# Altium footprint library PcbLib1.PcbLib: 37 footprints (part 2 of 3)
Each footprint in its own frame and in the unit in brackets; x right, y up, seen from the top. Pads: shape width x height; smd on the part's side, far side on the other; paste and mask are expansions set on the pad; w line width, h text height; cw(c..) or ccw(c..) is an arc to the next point about the centre after c.
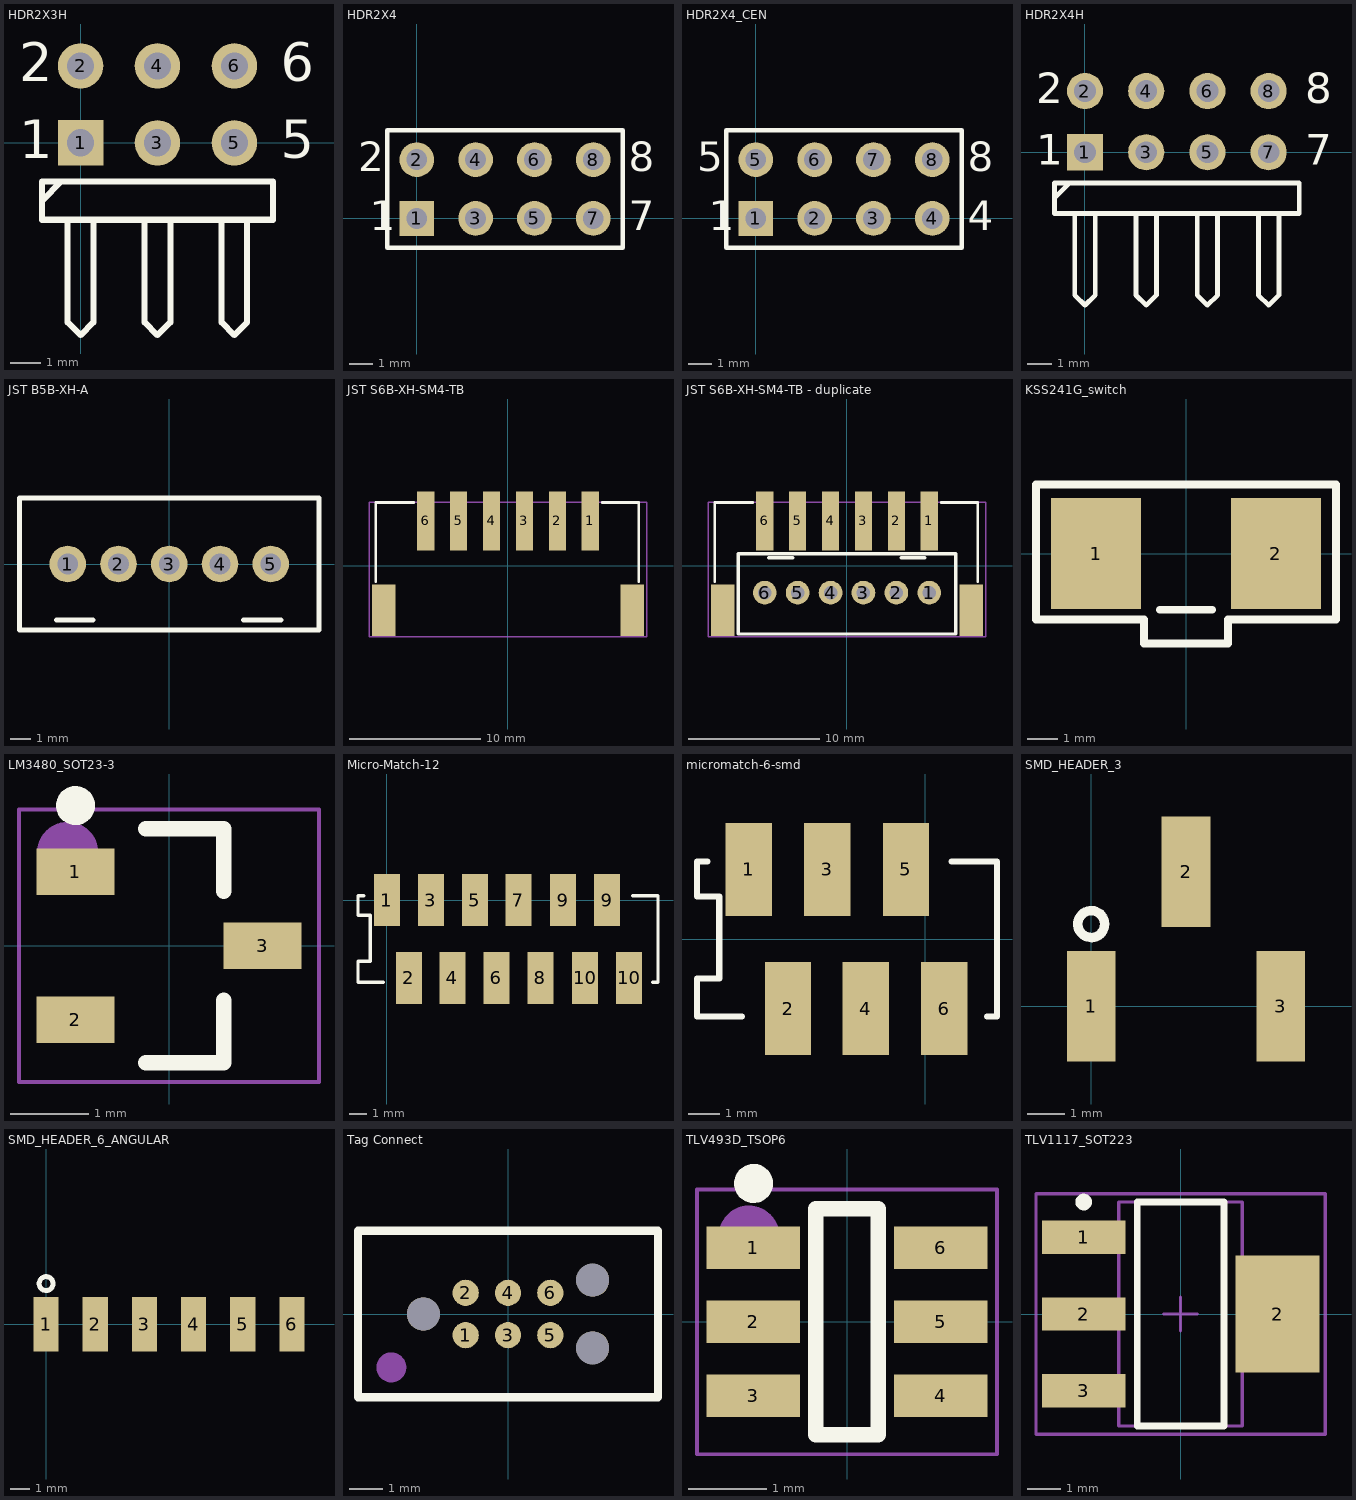
[diagram p1: the footprints below, top view; thin cyan lines are the x and y axes]

## HDR2X3H [mm] "Connector; Header; 3x2 Position; Right Angle"
pads (6):
  rect 1.5x1.5 hole 0.9: 1(0,0)
  round 1.5 hole 0.9: 2(0,2.54) 3(2.54,0) 4(2.54,2.54) 5(5.08,0) 6(5.08,2.54)
Top Overlay:
  lines w0.2: -1.27,-1.905 -0.635,-1.27 ; -0.423,-2.54 -0.423,-5.927 0,-6.35 0.423,-5.927 0.423,-2.54 ; 2.117,-2.54 2.117,-5.927 2.54,-6.35 2.963,-5.927 2.963,-2.54 ; 4.657,-2.54 4.657,-5.927 5.08,-6.35 5.503,-5.927 5.503,-2.54 ; -1.27,-2.54 6.35,-2.54 6.35,-1.27 -1.27,-1.27 -1.27,-2.54
  text "2" at -2.032,2.032 h1.27
  text "1" at -2.032,-0.508 h1.27
  text "5" at 6.604,-0.508 h1.27
  text "6" at 6.604,2.032 h1.27

## HDR2X4 [mm] "Connector; Header; 4x2 Position"
pads (8):
  rect 1.5x1.5 hole 0.9: 1(0,0)
  round 1.5 hole 0.9: 2(0,2.54) 3(2.54,0) 4(2.54,2.54) 5(5.08,0) 6(5.08,2.54) 7(7.62,0) 8(7.62,2.54)
Top Overlay:
  lines w0.2: -1.27,-1.27 8.89,-1.27 8.89,3.81 -1.27,3.81 -1.27,-1.27
  text "2" at -2.54,2.032 h1.27
  text "1" at -2.032,-0.508 h1.27
  text "7" at 9.144,-0.508 h1.27
  text "8" at 9.144,2.032 h1.27

## HDR2X4_CEN [mm] "Connector; Header; 4x2 Position"
pads (8):
  rect 1.5x1.5 hole 0.9: 1(0,0)
  round 1.5 hole 0.9: 2(2.54,0) 3(5.08,0) 4(7.62,0) 5(0,2.54) 6(2.54,2.54) 7(5.08,2.54) 8(7.62,2.54)
Top Overlay:
  lines w0.2: -1.27,-1.27 8.89,-1.27 8.89,3.81 -1.27,3.81 -1.27,-1.27
  text "5" at -2.54,2.032 h1.27
  text "1" at -2.032,-0.508 h1.27
  text "4" at 9.144,-0.508 h1.27
  text "8" at 9.144,2.032 h1.27

## HDR2X4H [mm] "Connector; Header; 4x2 Position; Right Angle"
pads (8):
  rect 1.5x1.5 hole 0.9: 1(0,0)
  round 1.5 hole 0.9: 2(0,2.54) 3(2.54,0) 4(2.54,2.54) 5(5.08,0) 6(5.08,2.54) 7(7.62,0) 8(7.62,2.54)
Top Overlay:
  lines w0.2: -1.27,-1.905 -0.635,-1.27 ; -0.423,-2.54 -0.423,-5.927 0,-6.35 0.423,-5.927 0.423,-2.54 ; 2.117,-2.54 2.117,-5.927 2.54,-6.35 2.963,-5.927 2.963,-2.54 ; 4.657,-2.54 4.657,-5.927 5.08,-6.35 5.503,-5.927 5.503,-2.54 ; 7.197,-2.54 7.197,-5.927 7.62,-6.35 8.043,-5.927 8.043,-2.54 ; -1.27,-2.54 -1.27,-1.27 8.89,-1.27 8.89,-2.54 -1.27,-2.54
  text "8" at 9.144,2.032 h1.27
  text "7" at 9.144,-0.508 h1.27
  text "1" at -2.032,-0.508 h1.27
  text "2" at -2.032,2.032 h1.27

## JST B5B-XH-A [mm] "JST B5B-XH-A"
pads (5):
  round 1.8 hole 1.02: 1(-5,0) 2(-2.5,0) 3(0,0) 4(2.5,0) 5(5,0)
Top Overlay:
  lines w0.254: -5.55,-2.75 -3.75,-2.75 ; 3.65,-2.75 5.5,-2.75 ; -7.375,-3.25 -7.375,3.25 7.375,3.25 7.375,2.375 7.375,-3.25 -7.375,-3.25
Mechanical 29:
  lines w0.1: -5.575,-2.75 -3.75,-2.75 ; 3.625,-2.75 5.525,-2.75 ; -7.4,-3.25 7.375,-3.25 7.375,3.25 7.35,3.25 -7.375,3.25 -7.375,-3.25 -7.4,-3.25
  text ".Designator" at -4.1,1.75 h1
3D body "JST B5B-XH-A.STEP": height 7, standoff -3.4, extent -7.45,-2.375 7.45,3.375

## JST S6B-XH-SM4-TB [mm] "JST S6B-XH-SM4-TB SMT motor connector"
height 6
pads (8):
  rect 1.3x4.5 smd: 1(6.25,3.4) 2(3.75,3.4) 3(1.25,3.4) 4(-1.25,3.4) 5(-3.75,3.4) 6(-6.25,3.4)
  rect 1.8x3.9 smd: ""(-9.45,-3.4) ""(9.45,-3.4)
Top Overlay:
  lines w0.2: -10.05,-1.2 -10.05,4.8 -7.15,4.8 ; 7.15,4.8 9.95,4.8 9.95,-1.2
Mechanical 29:
  lines w0.1: -10.55,-5.4 10.55,-5.4 10.55,4.8 -10.55,4.8 -10.55,-5.4
  text ".Designator" at -3.05,-1.3 h1.2
3D body "S6B-XH-SM4-TB.STEP": height 6, standoff 0, extent -9.975,-5.225 9.975,4.775

## JST S6B-XH-SM4-TB - duplicate [mm] "JST S6B-XH-SM4-TB SMT motor connector"
height 6
pads (14):
  round 1.8 hole 1.02: 1(6.25,-2.05) 2(3.75,-2.05) 3(1.25,-2.05) 4(-1.25,-2.05) 5(-3.75,-2.05) 6(-6.25,-2.05)
  rect 1.3x4.5 smd: 1(6.25,3.4) 2(3.75,3.4) 3(1.25,3.4) 4(-1.25,3.4) 5(-3.75,3.4) 6(-6.25,3.4)
  rect 1.8x3.9 smd: ""(-9.45,-3.4) ""(9.45,-3.4)
Top Overlay:
  lines w0.2: -10.05,-1.2 -10.05,4.8 -7.15,4.8 ; 7.15,4.8 9.95,4.8 9.95,-1.2
  lines w0.254: -5.95,0.6 -4.1,0.6 ; 4.125,0.6 5.925,0.6 ; -8.275,-5.2 8.275,-5.2 8.275,0.9 -8.275,0.9 -8.275,-5.2
Mechanical 29:
  lines w0.1: -8.25,-5.175 -8.275,-5.175 ; -5.975,0.6 -4.075,0.6 ; 4.075,0.6 5.975,0.6 ; -8.275,-5.175 8.275,-5.175 8.275,-5.2 8.275,0.9 8.25,0.9 -8.275,0.9 -8.275,-5.175 ; -10.55,-5.4 -10.55,4.8 10.55,4.8 10.55,-5.4 -10.55,-5.4
  text ".Designator" at -5.125,-4.425 h1.2
3D body "S6B-XH-SM4-TB.STEP": height 6, standoff 0, extent -9.975,-5.225 9.975,4.775

## KSS241G_switch [mm] "KSS241G SMT Side Actuated Switch"
height 1.7
pads (2):
  rect 3x3.7 smd: 1(-3,0) 2(3,0)
Top Overlay:
  lines w0.254: -0.875,-1.875 0.875,-1.875 ; -0.85,2.3 0.9,2.3 5,2.3 5,-2.1 5,-2.2 1.4,-2.2 1.4,-3 -1.4,-3 -1.4,-2.2 -5,-2.2 -5,2.3 -0.8,2.3
Mechanical 29:
  lines w0.1: -5,-2.2 -1.4,-2.2 -1.4,-3 1.4,-3 1.4,-2.2 5,-2.2 5,2.3 -5,2.3 -5,-2.2
  text ".Designator" at -2.3,-0.5 h1.2
3D body: height 1.7, standoff 0.1, extent -2.794,-1.905 2.794,1.905
3D body: height 1.7, standoff 0.1, extent -1.25,-2.794 1.25,-1.905

## LM3480_SOT23-3 [mm] "SOT23, 3-Leads, Body 2,92x2,37mm, Pitch 0,95mm, IPC Medium Density"
height 1.12
pads (3):
  rect 1x0.6 smd: 1(-1.2,0.95) 2(-1.2,-0.95) 3(1.2,0)
Top Overlay:
  circle w0.25: c-1.2,1.8 r0.125
  lines w0.2: -0.3,-1.5 0.7,-1.5 0.7,-0.7 ; -0.3,1.5 0.7,1.5 0.7,0.7
Mechanical 29:
  circle w0.5: c-1.3,1.2 r0.141
  lines w0.05: -1.925,-1.75 1.925,-1.75 1.925,1.75 -1.925,1.75 -1.925,-1.75
  text ".Designator" at -1.3,-0.6 h1.2
3D body: height 1.12, standoff 0.1, extent -0.7,-1.52 0.7,1.52

## Micro-Match-12 [mm] "Micro-Match Female-On-Board  12 Positions SMD"
height 5.3
pads (12):
  rect 1.5x3 smd: 1(0,0) 2(1.27,-4.5) 3(2.54,0) 4(3.78,-4.5) 5(5.08,0) 6(6.32,-4.5) 7(7.59,0) 8(8.86,-4.5) 9(10.16,0) 9(12.7,0) 10(11.43,-4.5) 10(13.97,-4.5)
Top Overlay:
  lines w0.2: -1.341,0.25 -1.67,0.25 -1.67,-0.875 -0.95,-0.875 -0.95,-3.525 -1.67,-3.525 -1.67,-4.75 -0.213,-4.75 ; 14.179,0.25 15.636,0.25 ; 15.322,-4.75 15.636,-4.75 ; 15.64,-4.75 15.64,0.25
3D body "c-8-188275-0-u-3d.stp": height 5.3, standoff 0.05, extent -1.615,-5.7 13.015,1.2
3D body "c-8-188275-0-u-3d.stp": height 5.3, standoff 0.05, extent 0.925,-5.7 15.555,1.2

## micromatch-6-smd [mm] "Micro-Match Female-On-Board  6 Positions SMD"
height 5.3
pads (6):
  rect 1.5x3 smd: 1(-5.7,2.25) 2(-4.43,-2.25) 3(-3.16,2.25) 4(-1.92,-2.25) 5(-0.62,2.25) 6(0.62,-2.25)
Top Overlay:
  lines w0.2: -7.041,2.5 -7.37,2.5 -7.37,1.375 -6.65,1.375 -6.65,-1.275 -7.37,-1.275 -7.37,-2.5 -5.913,-2.5 ; 0.859,2.5 2.316,2.5 ; 2.002,-2.5 2.316,-2.5 ; 2.32,-2.5 2.32,2.5
3D body "c-8-188275-0-u-3d.stp": height 5.3, standoff 0.05, extent -7.315,-3.45 7.315,3.45

## SMD_HEADER_3 [mm] "SMD_HEADER_3"
height 10
pads (3):
  rect 1.3x2.96 smd: 1(0,0) 2(2.54,3.6) 3(5.08,0)
Top Overlay:
  circle w0.254: c0,2.2 r0.361

## SMD_HEADER_6_ANGULAR [mm] "SMD_HEADER_6_ANGULAR"
height 2.5
pads (6):
  rect 1.3x2.8 smd: 1(0,0) 2(2.54,0) 3(5.08,0) 4(7.62,0) 5(10.16,0) 6(12.7,0)
Top Overlay:
  circle w0.254: c0,2.1 r0.361
3D body "pin_header_a-sl254-ea-g02mp1.stp": height 2.5, standoff 0, extent 8.86,-10.9 13.94,0.6
3D body "pin_header_a-sl254-ea-g02mp1.stp": height 2.5, standoff 0, extent 3.76,-10.9 8.84,0.6
3D body "pin_header_a-sl254-ea-g02mp1.stp": height 2.5, standoff 0, extent -1.34,-10.9 3.74,0.6

## Tag Connect [mm] "TC2030-CTX-NL"
pads (9):
  round 0.787 smd paste-0.787: 1(-1.27,-0.635) 2(-1.27,0.635) 3(0,-0.635) 4(0,0.635) 5(1.27,-0.635) 6(1.27,0.635)
  round 0.991 hole 0.991 unplated: ""(-2.54,0) ""(2.54,-1.015) ""(2.54,1.015)
Top Overlay:
  lines w0.254: -4.5,-2.5 -4.5,2.5 4.5,2.5 4.5,-2.5 -4.5,-2.5
Mechanical 29:
  circle w0.5: c-3.5,-1.6 r0.2
  lines w0.1: -4.5,-2.5 -4.5,2.5 4.5,2.5 4.5,-2.5 -4.5,-2.5
  text ".Designator" at -2.3,-0.6 h1.2

## TLV493D_TSOP6 [mm] "TSOP, 6-Leads, Body 2,90x1,60mm, Pitch 0,95mm, IPC Medium Density"
height 1.1
pads (6):
  rect 1.2x0.55 smd: 1(-1.2,0.95) 2(-1.2,0) 3(-1.2,-0.95) 4(1.2,-0.95) 5(1.2,0) 6(1.2,0.95)
Top Overlay:
  circle w0.25: c-1.2,1.775 r0.125
  lines w0.2: -0.4,-1.45 -0.4,1.45 0.4,1.45 0.4,-1.45 -0.4,-1.45
Mechanical 29:
  circle w0.5: c-1.259,1.1 r0.141
  lines w0.05: -1.925,-1.7 -1.925,1.7 1.925,1.7 1.925,-1.7 -1.925,-1.7
  text ".Designator" at -1.5,-0.8 h1.2
3D body: height 1.1, standoff 0.1, extent -0.8,-1.45 0.8,1.45

## TLV1117_SOT223 [mm] "SOT223, 4-Leads, Body 6,7x7,3mm (max), Pitch 2,30mm, IPC Medium Density"
height 1.8
pads (4):
  rect 2.5x1 smd: 1(-2.9,2.3) 2(-2.9,0) 3(-2.9,-2.3)
  rect 2.5x3.5 smd: 2(2.9,0)
Top Overlay:
  circle w0.25: c-2.9,3.35 r0.125
  lines w0.2: -1.3,-3.35 1.3,-3.35 1.3,3.35 -1.3,3.35 -1.3,-3.35
Mechanical 13:
  lines w0.1: -1.85,-3.35 1.85,-3.35 1.85,3.35 -1.85,3.35 -1.85,-3.35
Mechanical 15:
  lines w0.1: -0.5,0 0.5,0 ; 0,-0.5 0,0.5 ; -4.325,-3.6 4.325,-3.6 4.325,3.6 -4.325,3.6 -4.325,-3.6
3D body: height 1.8, standoff 0.02, extent -1.85,-3.35 1.85,3.35